# EAGLE library part LM2576D2T-005G (library LM2576D2T-005G)
LM2576D2T-005G, ANA 5V 3A PWR SW REG LM2576D2T-005G, ANA 5V 3A PWR SW REG <https://componentsearchengine.com/Images/3/LM2576D2T-005G.jpg> Source: Datasheet <http://www.onsemi.com/pub/Collateral/LM2576-D.PDF>
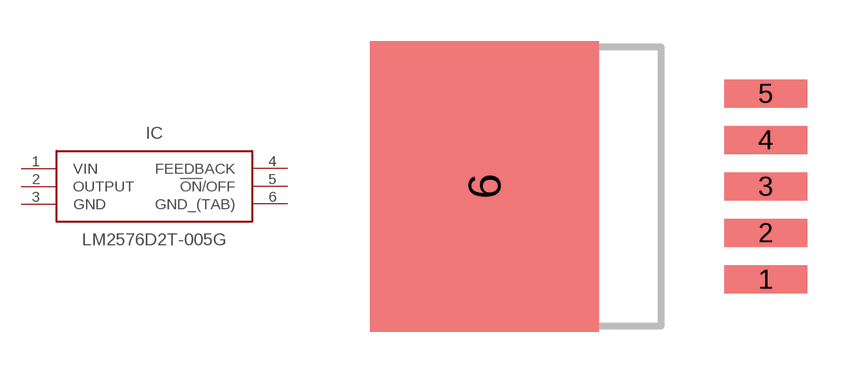
[diagram p0: symbol with the pads of D2PAK-936A-02-C; footprint D2PAK-936A-02-C]

Designator prefix IC

## LM2576D2T-005G (Allied_Number: 70466105; Description: LM2576D2T-005G, ANA 5V 3A PWR SW REG LM2576D2T-005G, ANA 5V 3A PWR SW REG; Height: mm; Manufacturer_Name: ON Semiconductor; Manufacturer_Part_Number: LM2576D2T-005G; RS_Part_Number: 8080067; Supplier_Name: RS)  [D2PAK-936A-02-C]
1  VIN  in
2  OUTPUT  out
3  GND  pwr
4  FEEDBACK  pas
5  !ON!/OFF  pas
6  GND_(TAB)  pwr

## Footprint D2PAK-936A-02-C (pad centres in mm)
D2PAK-936A-02-C
smd 3.05 x 1.016: 1 3.836,-8.522; 2 3.836,-6.82; 3 3.836,-5.118; 4 3.836,-3.416; 5 3.836,-1.714
smd 8.38 x 10.66: 6 -6.469,-5.118